# Altium schematic symbol library inductors.SchLib: 3 symbols
Pins are listed as number, name and electrical type; pins without a type are passive.

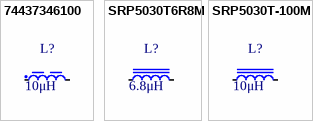
[diagram p0: symbols 74437346100 to SRP5030T-100M]

## 74437346100
designator L?  value 10μH
General Purpose Inductor, 10uH, 20%, 1 Element, Powdered Iron-Core, SMD, 2926; Manufacturer: Würth Elektronik; Manufacturer Part Number: 74437346100; Supplier: DigiKey; Supplier Part Number: 732-3379-1-ND; Package/Case: 2926 Imperial
footprint INDM7366X280N
pins: 1, 2

## SRP5030T6R8M
designator L?  value 6.8μH
Inductor Power Shielded/Molded Wirewound 6.8uH 20% 100KHz Powdered Iron 4A 76.2mOhm DCR T/R; Manufacturer: Bourns Inc; Manufacturer Part Number: SRP5030T-6R8M; Supplier: DigiKey; Supplier Part Number: SRP5030T-6R8MCT-ND; Package/Case: Nonstandard
footprint INDM5752X300N
pins: 1, 2

## SRP5030T-100M
designator L?  value 10μH
Ind Power Shielded/Molded Wirewound 10uH 20% 100KHz Powdered Iron 2.75A T/R; Manufacturer: Bourns Inc; Manufacturer Part Number: SRP5030T-100M; Supplier: DigiKey; Supplier Part Number: SRP5030T-100MCT-ND; Package/Case: Nonstandard
footprint INDM5752X300N
pins: 1, 2